# Altium footprint library PcbLib4.PcbLib: 1 footprints
Each footprint in its own frame and in the unit in brackets; x right, y up, seen from the top. Pads: shape width x height; smd on the part's side, far side on the other; paste and mask are expansions set on the pad; w line width, h text height; cw(c..) or ccw(c..) is an arc to the next point about the centre after c.
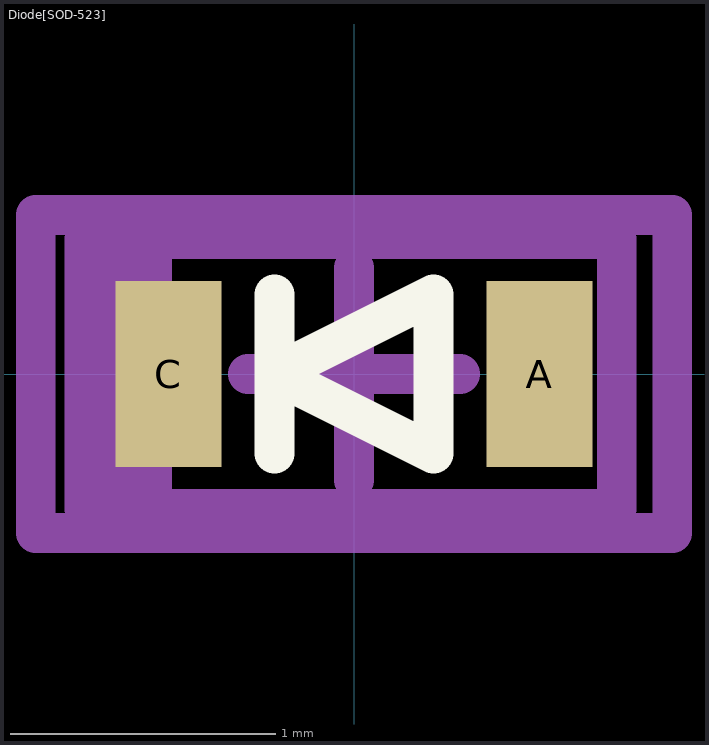
[diagram p0: the footprint, top view; thin cyan lines are the x and y axes]

## Diode[SOD-523] [mm]
pads (2):
  rect 0.4x0.7 smd: A(0.7,0) C(-0.7,0)
Top Overlay:
  lines w0.15: -0.3,-0.3 -0.3,0.3 ; -0.3,0 0.3,-0.3 0.3,0.3 -0.3,0
Mechanical 15:
  lines w0.15: -0.4,0 0.4,0 ; 0,-0.4 0,0.4 ; -1.2,-0.6 -1.2,0.6 1.2,0.6 1.2,-0.6 -1.2,-0.6
Mechanical 29:
  rectangle: -1.016,-0.508 -0.686,0.508
  lines w0.15: -1.016,-0.508 -1.016,0.508 0.991,0.508 0.991,-0.508 -1.016,-0.508
3D body "SOD523.STEP": height 0.65, standoff 0, extent -0.825,-0.4 0.825,0.4